# EAGLE library part FAN3213 (library mosfet_drivers)
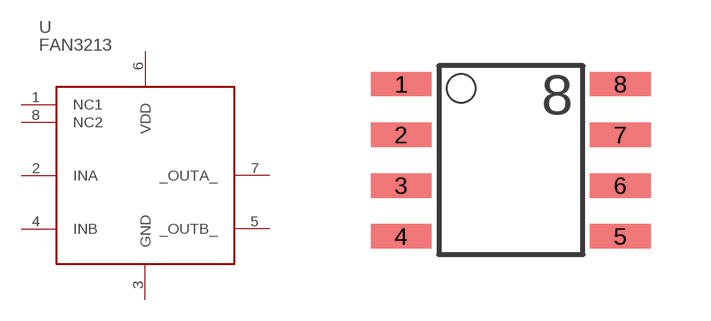
[diagram p0: symbol with the pads of SO8; footprint SO8]

Designator prefix -

## FAN3213  [SO8]
1  NC1
2  INA
3  GND
4  INB
5  _OUTB_
6  VDD
7  _OUTA_
8  NC2

## Footprint SO8 (pad centres in mm)
smd 1.524 x 0.61: 1 -2.743,1.27; 2 -2.743,0; 3 -2.743,-1.27; 4 -2.743,-2.54; 5 2.743,-2.54; 6 2.743,-1.27; 7 2.743,0; 8 2.743,1.27